# EAGLE library part ELGPS (library ELGPS)
FootPrint for Adafruit Ultimate GPS.
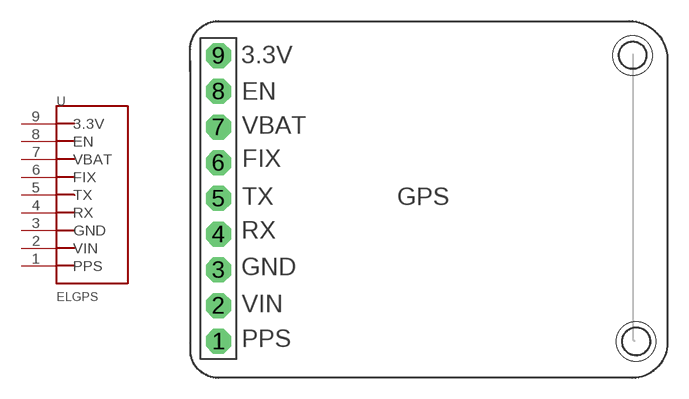
[diagram p0: symbol with the pads of ELGPS; footprint ELGPS]

Designator prefix U

## ELGPS  [ELGPS]
1  PPS
2  VIN  pwr
3  GND  pwr
4  RX  in
5  TX  out
6  FIX
7  VBAT  pwr
8  EN
9  3.3V  pwr

## Footprint ELGPS (pad centres in mm)
drill 1.016 pad 1.778 octagon: 1 0,-10.16; 2 0,-7.62; 3 0,-5.08; 4 0,-2.54; 5 0,0; 6 0,2.54; 7 0,5.08; 8 0,7.62; 9 0,10.16
hole 2.8 at 29.48,10.18
hole 2.8 at 29.74,-10.18